# EAGLE library part MAT03 (library transistors)
MAT03: Matched PNP transistor pair (Analog Devices) 36V Uce, 20mA Ic, 60-165 hfe 100µV offset, 2nV/rt(Hz) noise, 200MHz GBW Complementary type MAT02
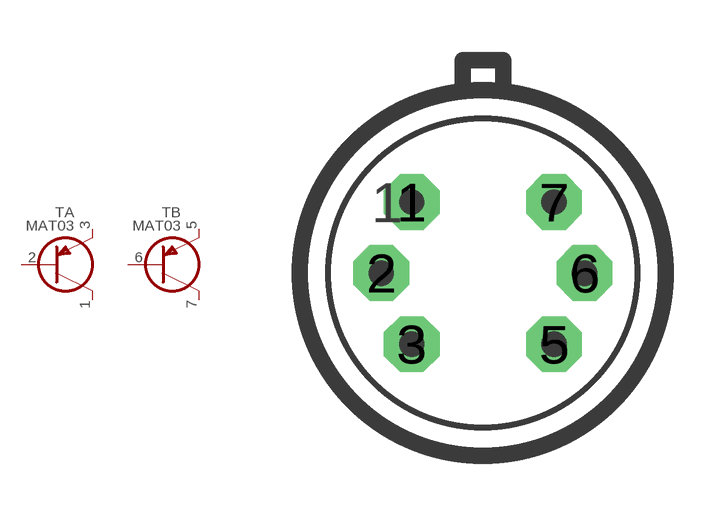
[diagram p2: symbol with the pads of TO78-6; footprint TO78-6]

Designator prefix T; gates A=TPNP B=TPNP

## MAT03  [TO78-6]
1  A:C
2  A:B
3  A:E
5  B:E
6  B:B
7  B:C

## Footprint TO78-6 (pad centres in mm)
TO-78 Metal can package, 6 pins
drill 0.813 pad 1.397 octagon: 1 0,0; 2 -0.762,-1.778; 3 0,-3.556; 5 3.556,-3.556; 6 4.318,-1.778; 7 3.556,0